# Altium integrated library ESP32_weather_station.IntLib: 11 symbols
Pins are listed as number, name and electrical type; pins without a type are passive.

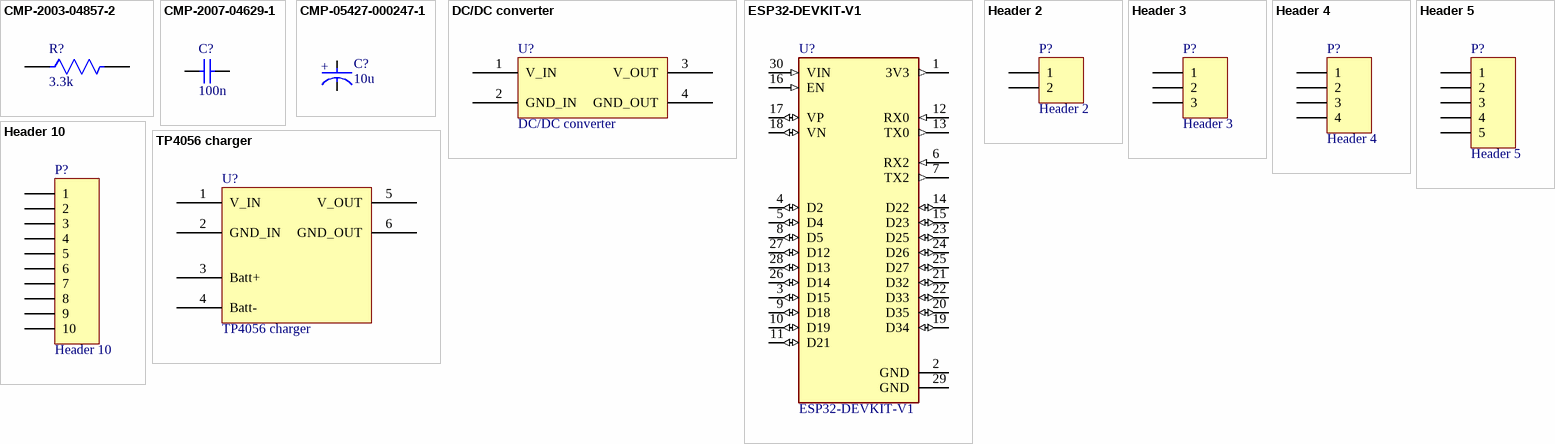
[diagram p0: symbols CMP-2003-04857-2 to TP4056 charger]

## CMP-2003-04857-2
designator R?, comment 3.3k
Manufacturer: Vishay; Manufacturer Part Number: CRCW12060000Z0EA; Resistance: 0mR; Power Rating: 250mW; Temperature Coefficient: 100ppm/°C; Tolerance: 1%; Voltage Rating (DC): 200V; Width: 1.6mm; Termination: SMD/SMT; Contact Plating: Tin; Min Operating Temperature: -55°C; Military Standard: Not; Mount: Surface Mount; Case Code (Metric): 3216; Case Code (Imperial): 1206; Packaging: Tape and Reel; Depth: 1.6mm; Case/Package: 1206; Radiation Hardening: No; Height: 0.55mm; Package Quantity: 5000; Weight: 0.000353oz; Max Operating Temperature: 155°C; Length: 3.2mm; Composition: Thick Film; Lead Free: Lead Free; Voltage Rating: 200V
footprint FP-CRCW1206-e3-IPC_C
footprint FP-CRCW1206-e3-MFG
footprint FP-CRCW1206-e3-IPC_A
footprint FP-CRCW1206-e3-IPC_B
pins: 1, 2

## CMP-2007-04629-1
designator C?, comment 100n
0805 ceramic; Part Number: 08055C104K4Z2A; Manufacturer: AVX Interconnect / Elco; Manufacturer: Kyocera AVX; Manufacturer Part Number: 08055C104K4Z2A
footprint CAPC2013X140X50NL20T25 (Chip Capacitor, 2-Leads, Body 2.00x1.25mm, IPC Medium Density)
footprint CAPC2013X140X50LL20T25 (Chip Capacitor, 2-Leads, Body 2.00x1.25mm, IPC High Density)
footprint CAPC2013X140X50ML20T25 (Chip Capacitor, 2-Leads, Body 2.00x1.25mm, IPC Low Density)
pins: 1, 2
1 alternate drawing of the same symbol

## CMP-05427-000247-1
designator C?, comment 10u
electrolytic tht 10uF; Manufacturer: Panasonic; Manufacturer Part Number: EEU-HD1H4R7; Voltage Rating (DC): 50V; Ripple Current (AC): 26mA; Lead Diameter: 0.5mm; Tolerance: 20%; Lead/Base Style: Straight; Polarity: Polar; Capacitance: 4.7uF; Life (Hours): 1000Hour; Length: 11mm; Packaging: Bulk; Min Operating Temperature: -55°C; RoHS Compliant: Yes; REACH SVHC: No SVHC; Lead Pitch: 2.5mm; Package Quantity: 200; Lead Free: Lead Free; Termination: Radial; Voltage: 50V; Construction: RADIAL; Mount: Through Hole; Diameter: 5mm; Ripple Current: 26mA; Voltage Rating: 50V; Height - Seated (Max): 0.492inch; Number of Pins: 2; Max Operating Temperature: 105°C; Height: 11mm; Case/Package: Radial; Series: HD
footprint FP-RAD-TH-D_5_0_5-L_11_1-MFG
pins: 1 C, 2 A
text: +

## DC/DC converter
designator U?
SX1308 module
footprint DC/DC converter module
pins: 1 V_IN, 2 GND_IN, 3 V_OUT, 4 GND_OUT

## ESP32-DEVKIT-V1
designator U?
Dual core, Wi-Fi: 2.4 GHz up to 150 Mbits/s,BLE (Bluetooth Low Energy) and legacy Bluetooth, 32 bits, Up to 240 MHz; MF: Do it; Price: None; Availability: Not in stock; Package: None; MP: ESP32-DEVKIT-V1; Value: *; SnapEDA_Link: https://www.snapeda.com/parts/ESP32-DEVKIT-V1/Do+it/view-part/?ref=snap; Check_prices: https://www.snapeda.com/parts/ESP32-DEVKIT-V1/Do+it/view-part/?ref=eda
footprint MODULE_ESP32_DEVKIT_V1
footprint MODULE_ESP32_DEVKIT_V1
pins: 1 3V3 (out), 2 GND (power), 3 D15 (io), 4 D2 (io), 5 D4 (io), 6 RX2 (in), 7 TX2 (out), 8 D5 (io), 9 D18 (io), 10 D19 (io), 11 D21 (io), 12 RX0 (in), 13 TX0 (out), 14 D22 (io), 15 D23 (io), 16 EN (in), 17 VP (io), 18 VN (io), 19 D34 (io), 20 D35 (io), 21 D32 (io), 22 D33 (io), 23 D25 (io), 24 D26 (io), 25 D27 (io), 26 D14 (io), 27 D12 (io), 28 D13 (io), 29 GND (power), 30 VIN (in)

## Header 2
designator P?
Header, 2-Pin; LatestRevisionDate: 17-Jul-2002; LatestRevisionNote: Re-released for DXP Platform.; Publisher: Altium Limited
footprint HDR1X2 (Connector; Header; 2 Position)
signal-integrity model Connector
footprint 18650 holder
pins: 1, 2

## Header 3
designator P?
Header, 3-Pin; LatestRevisionDate: 17-Jul-2002; LatestRevisionNote: Re-released for DXP Platform.; Publisher: Altium Limited
footprint HDR1X3 (Connector; Header; 3 Position)
signal-integrity model Connector
footprint HDR1X3 (Connector; Header; 3 Position)
pins: 1, 2, 3

## Header 4
designator P?
Header, 4-Pin; LatestRevisionDate: 17-Jul-2002; LatestRevisionNote: Re-released for DXP Platform.; Publisher: Altium Limited
footprint HDR1X4 (Connector; Header; 4 Position)
signal-integrity model Connector
pins: 1, 2, 3, 4

## Header 5
designator P?
Header, 5-Pin; LatestRevisionDate: 17-Jul-2002; LatestRevisionNote: Re-released for DXP Platform.; Publisher: Altium Limited
footprint HDR1X5 (Connector; Header; 5 Position)
signal-integrity model Connector
pins: 1, 2, 3, 4, 5

## Header 10
designator P?
Header, 10-Pin; LatestRevisionDate: 17-Jul-2002; LatestRevisionNote: Re-released for DXP Platform.; Publisher: Altium Limited
footprint HDR1X10 (Connector; Header; 10 Position)
signal-integrity model Connector
pins: 1, 2, 3, 4, 5, 6, 7, 8, 9, 10

## TP4056 charger
designator U?
footprint PCBComponent_1
footprint TP4056 module
pins: 1 V_IN, 2 GND_IN, 3 Batt+, 4 Batt-, 5 V_OUT, 6 GND_OUT